# EAGLE library part CONN_MILLI-GRID_14 (library bschulz)
Milli-Grid Header 2.00mm (.079") Pitch
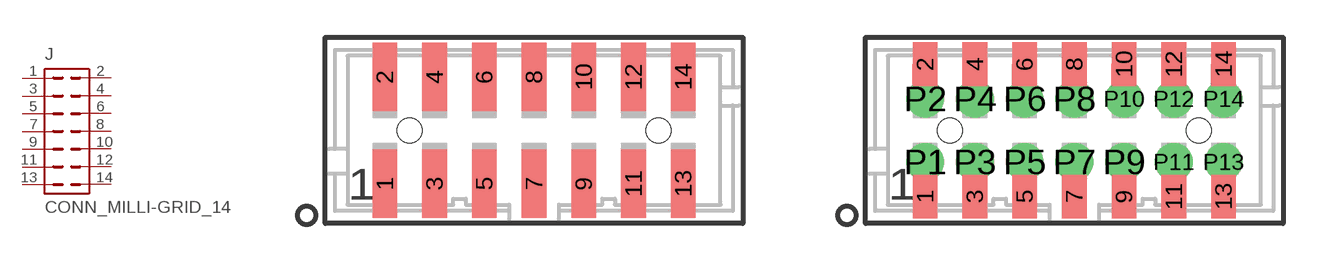
[diagram p30: symbol with the pads of 87832-14; footprints 87832-14, 87832-14_POGO]

Designator prefix J

## CONN_MILLI-GRID_14 (MF: MOLEX; OC_FARNELL: 7434698; OC_NEWARK: unknown), CONN_MILLI-GRID_14FEMALE (DIGIKEY: WM18702-ND; MF: Molex; MPN: 0791091006), CONN_MILLI-GRID_14MALE (DIGIKEY: WM6815CT-ND; MF: Molex; MPN: 0878325623)  [87832-14]
1  1  pas
2  2  pas
3  3  pas
4  4  pas
5  5  pas
6  6  pas
7  7  pas
8  8  pas
9  9  pas
10  10  pas
11  11  pas
12  12  pas
13  13  pas
14  14  pas

## CONN_MILLI-GRID_14POGO  [87832-14_POGO]
1  1  pas
2  2  pas
3  3  pas
4  4  pas
5  5  pas
6  6  pas
7  7  pas
8  8  pas
9  9  pas
10  10  pas
11  11  pas
12  12  pas
13  13  pas
14  14  pas
P1  1  pas
P2  2  pas
P3  3  pas
P4  4  pas
P5  5  pas
P6  6  pas
P7  7  pas
P8  8  pas
P9  9  pas
P10  10  pas
P11  11  pas
P12  12  pas
P13  13  pas
P14  14  pas

## CONN_MILLI-GRID_14NO_PEG (MF: Molex), CONN_MILLI-GRID_14FEMALENO_PEG (DIGIKEY: WM18702-ND; MF: Molex; MOUSER: 538-79109-1006; MPN: 0791091006), CONN_MILLI-GRID_14MALENO_PEG (DIGIKEY: WM8613-ND; MF: Molex; MOUSER: 538-87832-1416; MPN: 0878321416)  [87832-141]
Pads as for 87832-14

## Footprint 87832-14 (pad centres in mm)
Milli-Grid™ Header, Surface Mount, Vertical, Shrouded, Lead-Free, 14 Circuits, 0.76µm Gold (Au) Plating, with Locking Windows and Center Polarization Slot, PCB Locator, Tube Datasheet <http://www.molex.com/pdm_docs/sd/878321421_sd.pdf>
smd 1 x 2.75: 1 -6,-2.15; 2 -6,2.15; 3 -4,-2.15; 4 -4,2.15; 5 -2,-2.15; 6 -2,2.15; 7 0,-2.15; 8 0,2.15; 9 2,-2.15; 10 2,2.15; 11 4,-2.15; 12 4,2.15; 13 6,-2.15; 14 6,2.15
hole 1 at -5,0
hole 1 at 5,0

## Footprint 87832-14_POGO (pad centres in mm)
Milli-Grid™ Header, Surface Mount, Vertical, Shrouded, Lead-Free, 14 Circuits, 0.76µm Gold (Au) Plating, with Locking Windows and Center Polarization Slot, PCB Locator, Tube Datasheet <http://www.molex.com/pdm_docs/sd/878321421_sd.pdf>
smd 1 x 1.75: 1 -6,-2.667; 2 -6,2.667; 3 -4,-2.667; 4 -4,2.667; 5 -2,-2.667; 6 -2,2.667; 7 0,-2.667; 8 0,2.667; 9 2,-2.667; 10 2,2.667; 11 4,-2.667; 12 4,2.667; 13 6,-2.667; 14 6,2.667
drill 1.016 pad 1.422: P1 -6,-1.27; P2 -6,1.27; P3 -4,-1.27; P4 -4,1.27; P5 -2,-1.27; P6 -2,1.27; P7 0,-1.27; P8 0,1.27; P9 2,-1.27; P10 2,1.27; P11 4,-1.27; P12 4,1.27; P13 6,-1.27; P14 6,1.27
hole 1 at -5,0
hole 1 at 5,0

## Footprint 87832-141 (pad centres in mm)
Milli-Grid™ Header, Surface Mount, Vertical, Shrouded, Lead-Free, 14 Circuits, 0.76µm Gold (Au) Plating, with Locking Windows and Center Polarization Slot, PCB Locator, Tube Datasheet <http://www.molex.com/pdm_docs/sd/878321421_sd.pdf>
smd 1 x 2.75: 1 -6,-2.15; 2 -6,2.15; 3 -4,-2.15; 4 -4,2.15; 5 -2,-2.15; 6 -2,2.15; 7 0,-2.15; 8 0,2.15; 9 2,-2.15; 10 2,2.15; 11 4,-2.15; 12 4,2.15; 13 6,-2.15; 14 6,2.15